# EAGLE library part XA-SMT-8PIN (library NFR23_v1.1)
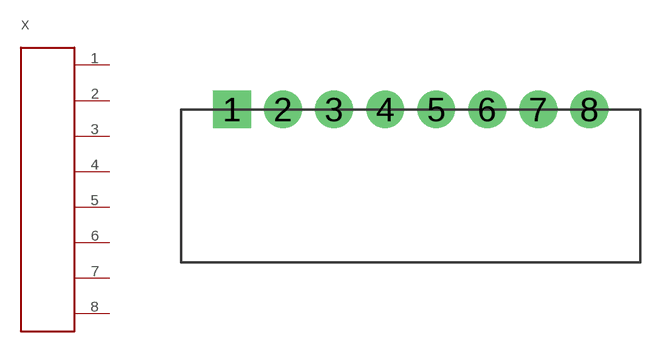
[diagram p10: symbol with the pads of XA-SMT-8PIN; footprint XA-SMT-8PIN]

Designator prefix X

## XA-SMT-8PIN  [XA-SMT-8PIN]
1  1
2  2
3  3
4  4
5  5
6  6
7  7
8  P$1

## Footprint XA-SMT-8PIN (pad centres in mm)
drill 1.016 pad 1.88 square: 1 0,0
drill 1.016 pad 1.88: 2 2.54,0; 3 5.08,0; 4 7.62,0; 5 10.16,0; 6 12.7,0; 7 15.24,0; 8 17.78,0